# Altium footprint library tcpcontrol.PcbLib: 62 footprints (part 3 of 4)
Each footprint in its own frame and in the unit in brackets; x right, y up, seen from the top. Pads: shape width x height; smd on the part's side, far side on the other; paste and mask are expansions set on the pad; w line width, h text height; cw(c..) or ccw(c..) is an arc to the next point about the centre after c.
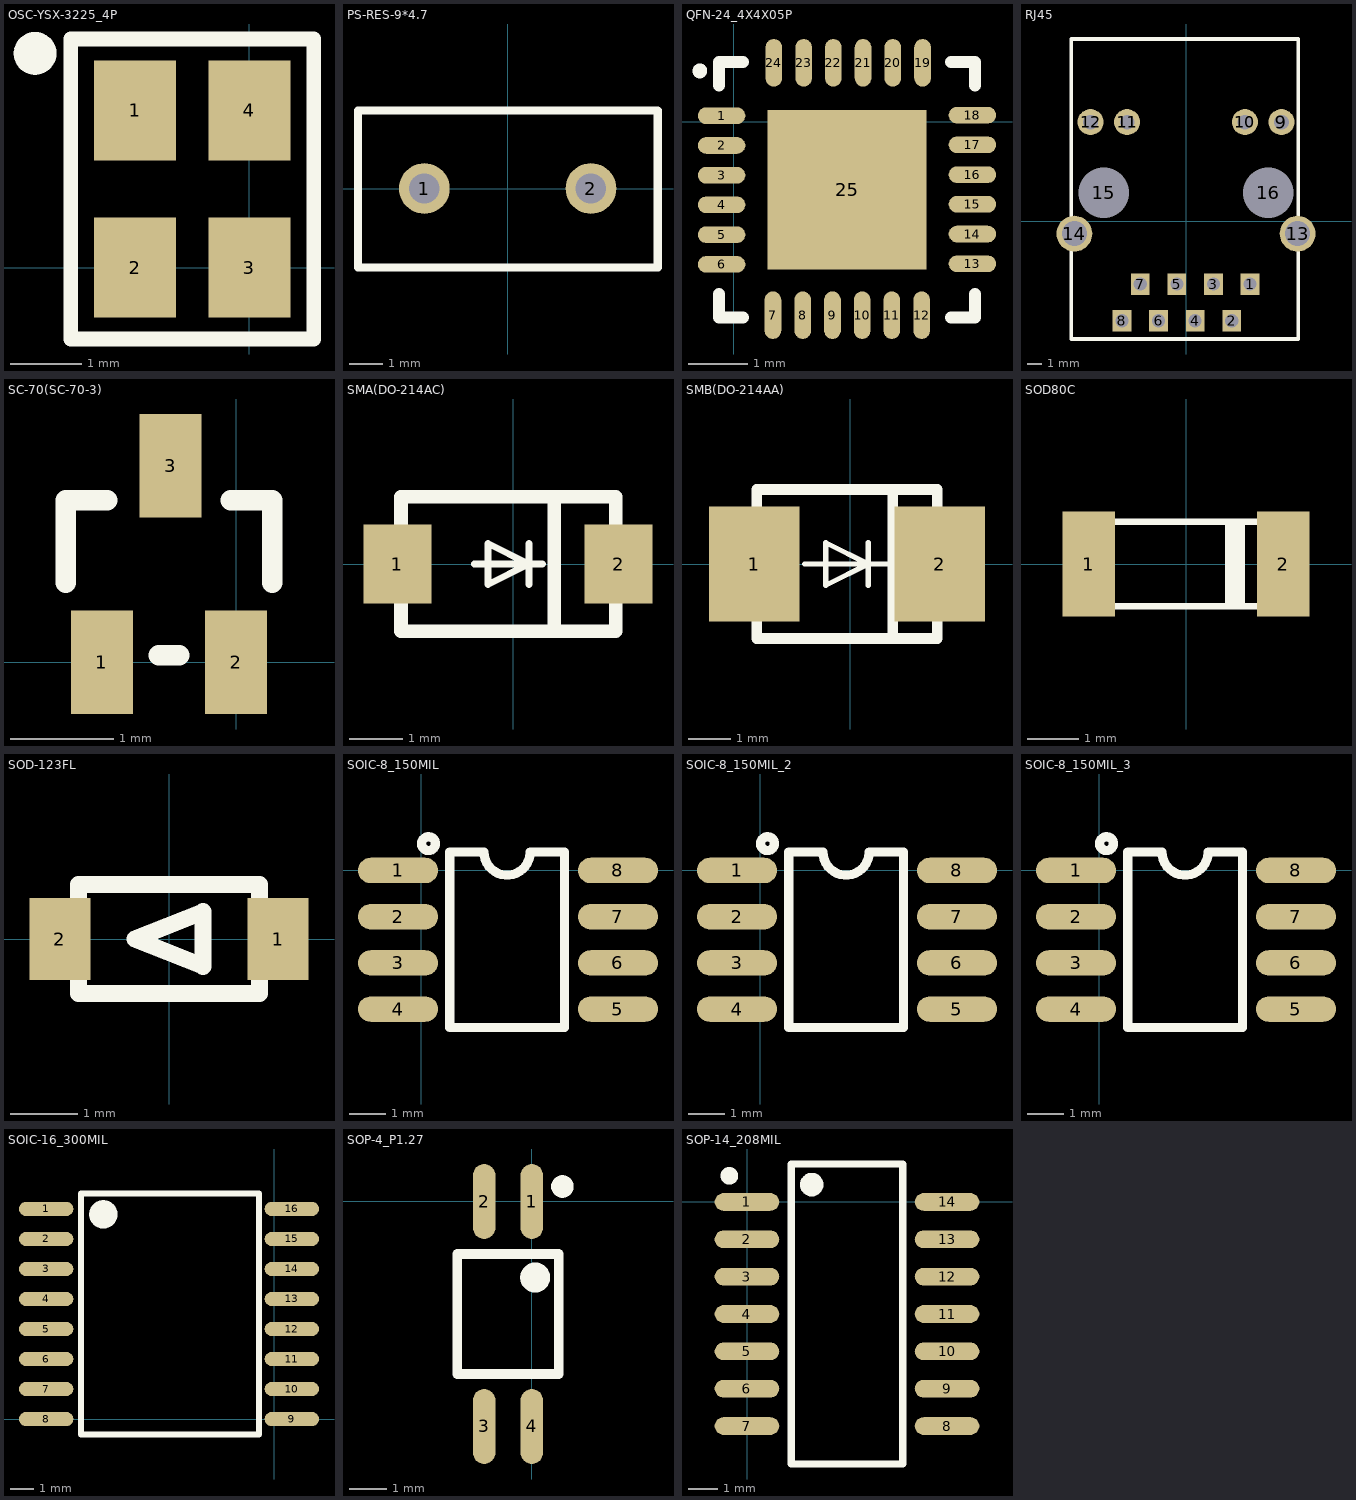
[diagram p2: the footprints below, top view; thin cyan lines are the x and y axes]

## OSC-YSX-3225_4P [mm]
height 1.1
pads (4):
  rect 1.15x1.4 smd: 1(-1.6,2.2) 2(-1.6,0) 3(0,0) 4(0,2.2)
Top Overlay:
  lines w0.203: -2.5,-1 0.9,-1 0.9,3.2 -2.5,3.2 -2.5,-1
  lines w0.3: -2.85,2.997 cw(c-3,2.999) -2.85,3

## PCBComponent_1 [mm]

## PS-RES-9*4.7 [mil]
height 43.31
pads (2):
  round 60 hole 36: 1(-98.4,0) 2(98.4,0)
Top Overlay:
  lines w10: -176.77,-93.31 177.63,-93.31 ; -176.77,-92.87 -176.77,92.13 177.56,92.13 ; 177.56,-93.31 177.56,91.73

## QFN-24_4X4X05P [mm]
height 1.1
pads (25):
  oval 0.8x0.28 smd: 1(-0.203,0.102) 2(-0.203,-0.399) 3(-0.203,-0.899) 4(-0.203,-1.397) 5(-0.203,-1.897) 6(-0.203,-2.398) 13(4.013,-2.388) 14(4.013,-1.887) 15(4.013,-1.387) 16(4.013,-0.889) 17(4.013,-0.389) 18(4.013,0.112)
  oval 0.28x0.8 smd: 7(0.66,-3.251) 8(1.161,-3.251) 9(1.661,-3.251) 10(2.159,-3.251) 11(2.659,-3.251) 12(3.16,-3.251) 19(3.175,0.991) 20(2.675,0.991) 21(2.174,0.991) 22(1.676,0.991) 23(1.176,0.991) 24(0.676,0.991)
  rect 2.68x2.68 smd: 25(1.905,-1.143)
Top Overlay:
  circle w0.25: c-0.569,0.856 r0
  lines w0.2: -0.245,-2.893 -0.245,-3.293 0.155,-3.293 ; -0.245,0.607 -0.245,1.007 0.155,1.007 ; 3.655,-3.293 4.055,-3.293 4.055,-2.893 ; 3.655,1.007 4.055,1.007 4.055,0.607

## RJ45 [mil]
height 43.31
pads (16):
  rect 51x59 hole 36: 1(175,-172) 2(125,-272) 3(75,-172) 4(25,-272) 5(-25,-172) 6(-75,-272) 7(-125,-172) 8(-175,-272)
  round 71 hole 40: 9(261,271) 10(161,271) 11(-161,271) 12(-261,271)
  round 98 hole 68: 13(305,-34) 14(-305,-34)
  round 79 hole 138: 15(-225,78) 16(225,78)
Top Overlay:
  lines w10: -313.5,-321.9 -313.5,498.1 306.5,498.1 306.5,-321.9 -313.5,-321.9
Top Paste:
  lines w23.6: -123,-308.9 -123,-234.1 ; -74.8,-208.7 -74.8,-134.5 ; -23,-308.9 -23,-234.1 ; 25.2,-208.7 25.2,-134.5 ; 77,-308.9 77,-234.1 ; 125.2,-208.7 125.2,-134.5
  lines w35.4: -194.4,-221.1 194.1,-221.1

## SC-70(SC-70-3) [mm]
pads (3):
  rect 0.6x1 smd: 1(-1.3,0) 2(0,0) 3(-0.635,1.905)
Top Overlay:
  lines w0.2: -1.65,0.77 -1.65,1.57 -1.25,1.57 ; -0.75,0.07 -0.55,0.07 ; -0.05,1.57 0.35,1.57 0.35,0.77

## SMA(DO-214AC) [mil]
height 43.31
pads (2):
  rect 50x57.9 smd: 1(-85,0) 2(77,0)
Top Overlay:
  lines w5: -28.7,0 21.3,0 ; 11.3,-15 11.3,0 ; 11.3,15 11.3,0 ; 11.3,0 -18.7,-15 -18.7,0 -18.7,15 11.3,0
  lines w10: 30,-49 30,49 ; -82.4,-49.2 75,-49.2 75,49.2 -82.4,49.2 -82.4,-49.2

## SMB(DO-214AA) [mil]
height 43.31
pads (2):
  rect 85x108 smd: 1(-90,0) 2(84,0)
Top Overlay:
  lines w5: -43,0 37,0 ; 17,-20 17,20 17,0 ; 17,0 -23,-20 -23,20 17,0
  lines w10: -88,-40 -113,-40 -113,40 -88,40 ; 40,-70 40,70 ; 82,-40 107,-40 107,40 82,40 ; -88,-70 -88,70 82,70 82,-70 -88,-70

## SOD80C [mil]
height 43.31
pads (2):
  rect 40x80 smd: 1(-74,0) 2(74,0)
Top Overlay:
  lines w5.08: 32,-32 32,32 ; 37.1,-32 37.1,32 ; 42.2,-32 42.2,32 ; -74.2,-32 74.2,-32 74.2,32 -74.2,32 -74.2,-32

## SOD-123FL [mil]
height 43.31
pads (2):
  rect 35.8x48 smd: 1(64,0) 2(-64,0)
Top Overlay:
  lines w10: -53,-32 53,-32 53,32 -53,32 -53,-32 ; -20,0 20,16 20,-16 -20,0

## SOIC-8_150MIL [mm]
height 1.1
pads (8):
  oval 2.2x0.7 smd: 1(-0.635,0) 2(-0.635,-1.27) 3(-0.635,-2.54) 4(-0.635,-3.81) 5(5.41,-3.81) 6(5.41,-2.54) 7(5.41,-1.27) 8(5.41,0)
Top Overlay:
  circle w0.254: c0.203,0.737 r0.191
  lines w0.254: 0.787,-4.318 3.937,-4.318 3.937,0.508 2.997,0.508 cw(c2.362,0.508) 1.727,0.508 0.787,0.508 0.787,-4.318

## SOIC-8_150MIL_2 [mm]
pads (8):
  oval 2.2x0.7 smd: 1(-0.635,0) 2(-0.635,-1.27) 3(-0.635,-2.54) 4(-0.635,-3.81) 5(5.41,-3.81) 6(5.41,-2.54) 7(5.41,-1.27) 8(5.41,0)
Top Overlay:
  circle w0.254: c0.203,0.737 r0.191
  lines w0.254: 0.787,-4.318 3.937,-4.318 3.937,0.508 2.997,0.508 cw(c2.362,0.508) 1.727,0.508 0.787,0.508 0.787,-4.318

## SOIC-8_150MIL_3 [mm]
pads (8):
  oval 2.2x0.7 smd: 1(-0.635,0) 2(-0.635,-1.27) 3(-0.635,-2.54) 4(-0.635,-3.81) 5(5.41,-3.81) 6(5.41,-2.54) 7(5.41,-1.27) 8(5.41,0)
Top Overlay:
  circle w0.254: c0.203,0.737 r0.191
  lines w0.254: 0.787,-4.318 3.937,-4.318 3.937,0.508 2.997,0.508 cw(c2.362,0.508) 1.727,0.508 0.787,0.508 0.787,-4.318

## SOIC-16_300MIL [mm]
pads (16):
  oval 2.3x0.6 smd: 1(-9.652,8.89) 2(-9.652,7.62) 3(-9.652,6.35) 4(-9.652,5.08) 5(-9.652,3.81) 6(-9.652,2.54) 7(-9.652,1.27) 8(-9.652,0) 9(0.737,0) 10(0.737,1.27) 11(0.737,2.54) 12(0.737,3.81) 13(0.737,5.08) 14(0.737,6.35) 15(0.737,7.62) 16(0.737,8.89)
Top Overlay:
  lines w0.254: -8.179,-0.655 -8.179,9.545 -1.445,9.545 -0.66,9.545 -0.66,-0.655 -8.179,-0.655
  lines w0.6: -6.934,8.656 cw(c-7.234,8.659) -6.934,8.661

## SOP-4_P1.27 [mm]
height 1.1
pads (4):
  oval 0.6x2 smd: 1(0,0) 2(-1.27,0) 3(-1.27,-6) 4(0,-6)
Top Overlay:
  lines w0.254: -1.985,-4.6 0.715,-4.6 0.715,-1.4 -1.985,-1.4 -1.985,-4.6
  lines w0.3: 0.965,0.399 cw(c0.815,0.4) 0.965,0.401
  lines w0.4: 0.29,-2.03 cw(c0.09,-2.027) 0.29,-2.025

## SOP-14_208MIL [mm]
height 1.1
pads (14):
  oval 2.2x0.6 smd: 1(-0.001,0) 2(-0.001,-1.27) 3(-0.001,-2.54) 4(-0.001,-3.81) 5(-0.001,-5.08) 6(-0.001,-6.35) 7(-0.001,-7.62) 8(6.801,-7.62) 9(6.801,-6.35) 10(6.801,-5.08) 11(6.801,-3.81) 12(6.801,-2.54) 13(6.801,-1.27) 14(6.801,0)
Top Overlay:
  lines w0.254: 1.5,-8.91 5.3,-8.91 5.3,1.29 1.5,1.29 1.5,-8.91
  lines w0.3: -0.451,0.886 cw(c-0.601,0.888) -0.451,0.889
  lines w0.4: 2.399,0.587 cw(c2.199,0.588) 2.399,0.589